# Altium footprint library CEF.PcbLib: 4 footprints
Each footprint in its own frame and in the unit in brackets; x right, y up, seen from the top. Pads: shape width x height; smd on the part's side, far side on the other; paste and mask are expansions set on the pad; w line width, h text height; cw(c..) or ccw(c..) is an arc to the next point about the centre after c.
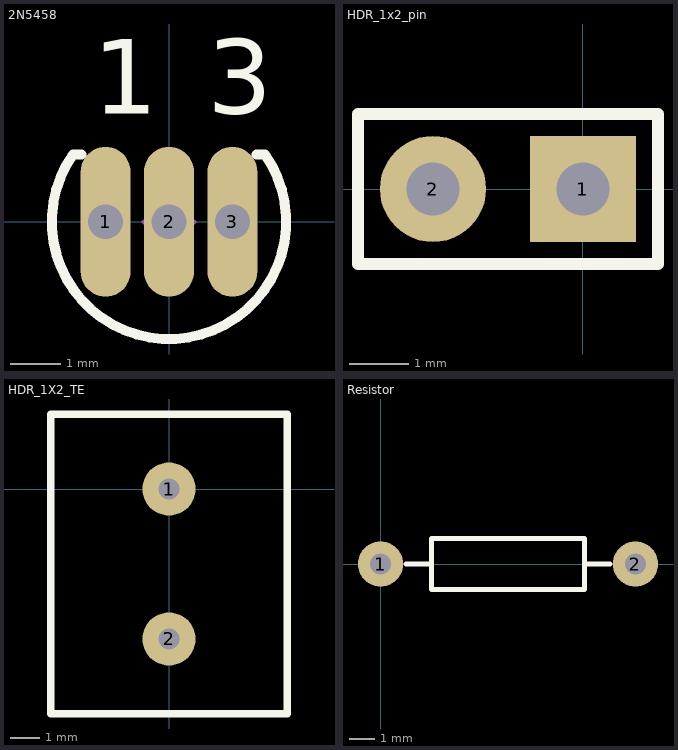
[diagram p0: the footprints below, top view; thin cyan lines are the x and y axes]

## 2N5458 [mm] "Jfet"
pads (3):
  oval 1x3 hole 0.7: 1(-1.27,0) 2(0,0) 3(1.27,0)
Top Overlay:
  lines w0.2: -1.75,1.35 -1.92,1.35 ccw(c0,0) 1.92,1.35 1.75,1.35
  text "3" at 0.762,2.159 h1.5
  text "1" at -1.524,2.159 h1.5
Mechanical 15:
  lines w0.1: -0.5,0 0.5,0 ; 0,-0.5 0,0.5

## HDR_1x2_pin [mm]
pads (2):
  rect 1.8x1.8 hole 0.9: 1(0,0)
  round 1.8 hole 0.9: 2(-2.54,0)
Top Overlay:
  lines w0.2: -3.81,-1.27 1.27,-1.27 1.27,1.27 -3.81,1.27 -3.81,-1.27

## HDR_1X2_TE [mm] "282836-2"
pads (2):
  round 1.8 hole 0.7: 1(0,0) 2(0,-5.08)
Top Overlay:
  lines w0.254: -4,-7.62 -4,2.54 4,2.54 4,-7.62 -4,-7.62

## Resistor [mm] "Res_2mm_AxialTH"
pads (2):
  round 1.8 hole 0.85: 1(0,0) 2(10.16,0)
Top Overlay:
  lines w0.2: 1.016,0 2.032,0 ; 8.128,0 9.144,0 ; 2.032,-1.016 8.128,-1.016 8.128,1.016 2.032,1.016 2.032,-1.016